# Altium schematic symbol library TI_TXU0101.SchLib: 1 symbol
Pins are listed as number, name and electrical type; pins without a type are passive.

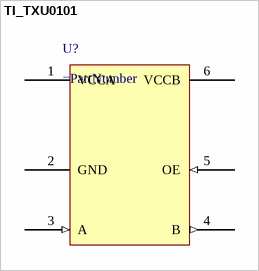
[diagram p0: symbol TI_TXU0101]

## TI_TXU0101
designator U?
pins: 1 VCCA, 2 GND, 3 A (in), 4 B (out), 5 OE (in), 6 VCCB